# Altium footprint library COIL 68uH LCLS1.PcbLib: 1 footprints
Each footprint in its own frame and in the unit in brackets; x right, y up, seen from the top. Pads: shape width x height; smd on the part's side, far side on the other; paste and mask are expansions set on the pad; w line width, h text height; cw(c..) or ccw(c..) is an arc to the next point about the centre after c.
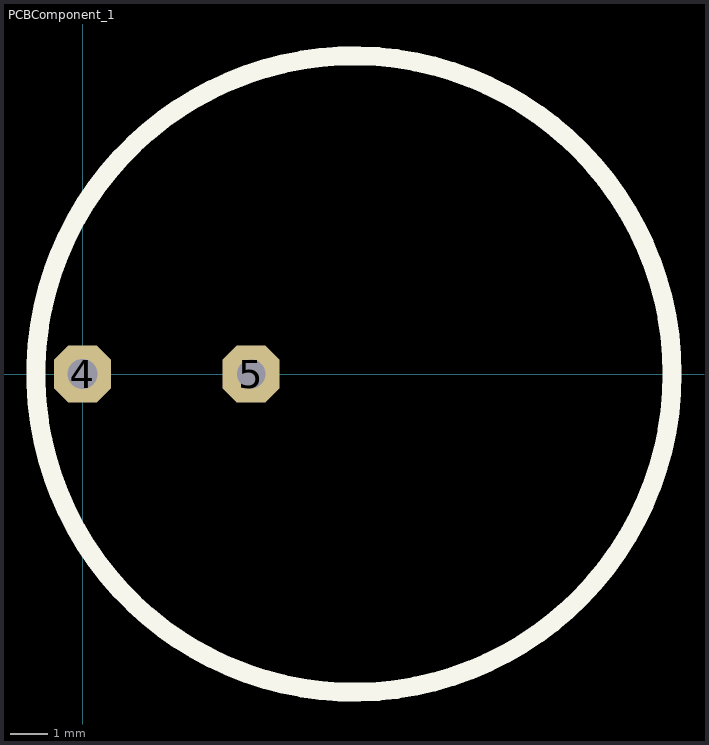
[diagram p0: the footprint, top view; thin cyan lines are the x and y axes]

## PCBComponent_1 [mil]
pads (2):
  oct 60x60 hole 31.5: 4(0,0)
  oct 60x60 hole 30: 5(177.17,0)
Top Overlay:
  circle w20: c285.43,0 r334.65